# Altium schematic symbol library IR2101.SchLib: 2 symbols
Pins are listed as number, name and electrical type; pins without a type are passive.

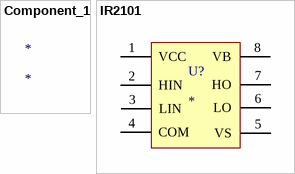
[diagram p0: symbols Component_1 to IR2101]

## Component_1
designator *

## IR2101
designator U?
footprint SOIC8 (SOIC, 8-Leads, Body 4,90x3,90mm, Pitch 1,27mm, Thermal Pad 3,45x2,56mm, IPC Low Density)
pins: 1 VCC, 2 HIN, 3 LIN, 4 COM, 5 VS, 6 LO, 7 HO, 8 VB